# Altium schematic symbol library ERJ-14YJ242U.SchLib: 1 symbol
Pins are listed as number, name and electrical type; pins without a type are passive.

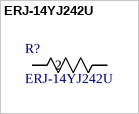
[diagram p0: symbol ERJ-14YJ242U]

## ERJ-14YJ242U
designator R?
No Description Available; Mfr_Name: Panasonic; Copyright: Copyright (C) 2022 Ultra Librarian. All rights reserved.; Manufacturer_Part_Number: ERJ-14YJ242U; RefDes: RefDes; Type: DEV
footprint RC1210N_PAN
pins: 1, 2